# EAGLE library part USBC_BREAKOUT (library breakouts)
USB Type-C brekout module with TUSB320 Controler
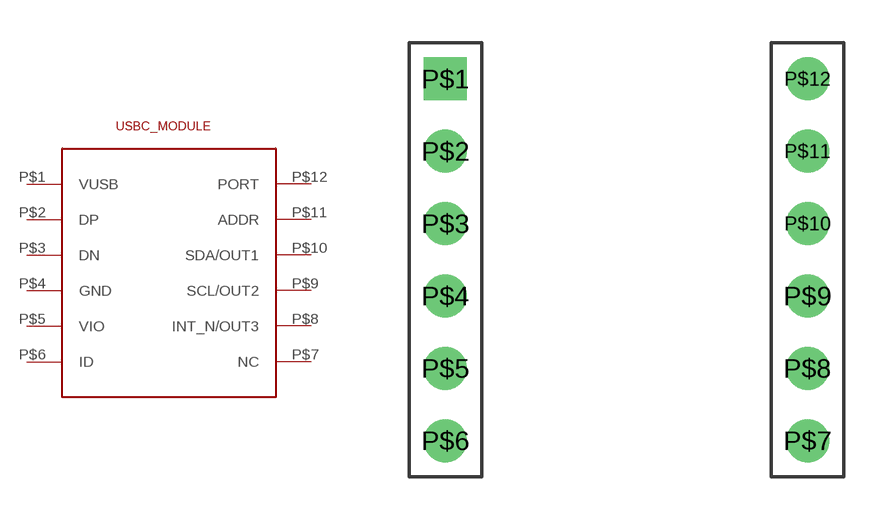
[diagram p4: symbol with the pads of DIP12_6WIDE; footprint DIP12_6WIDE]

Designator prefix -

## USBC_BREAKOUTPDIP  [DIP12_6WIDE]
P$1  VUSB
P$2  DP
P$3  DN
P$4  GND
P$5  VIO
P$6  ID
P$7  NC
P$8  INT_N/OUT3
P$9  SCL/OUT2
P$10  SDA/OUT1
P$11  ADDR
P$12  PORT

## Footprint DIP12_6WIDE (pad centres in mm)
drill 1 square: P$1 0,0
drill 1: P$2 0,-2.54; P$3 0,-5.08; P$4 0,-7.62; P$5 0,-10.16; P$6 0,-12.7; P$7 12.7,-12.7; P$8 12.7,-10.16; P$9 12.7,-7.62; P$10 12.7,-5.08; P$11 12.7,-2.54; P$12 12.7,0